# EAGLE library part NC7SZ74 (library 1_spektrak)
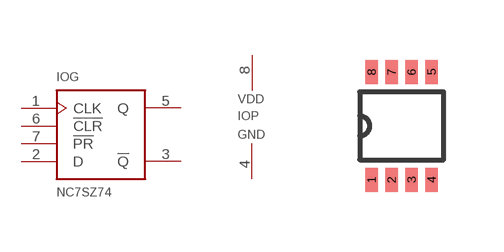
[diagram p10: symbol with the pads of FF_US8; footprint FF_US8]

Designator prefix IO; gates G=FLIP_FLOP P=PWRGND

## NC7SZ74  [FF_US8]
1  G:CLK
2  G:D  in
3  G:!Q  out
4  P:GND  pwr
5  G:Q  out
6  G:!CLR  in
7  G:!PR  in
8  P:VDD  pwr

## Footprint FF_US8 (pad centres in mm)
smd 0.305 x 0.61: 1 0,0; 2 0.5,0; 3 1,0; 4 1.5,0; 5 1.5,2.7; 6 1,2.7; 7 0.5,2.7; 8 0,2.7